# EAGLE library part MCP4728 (library _RoweTel)
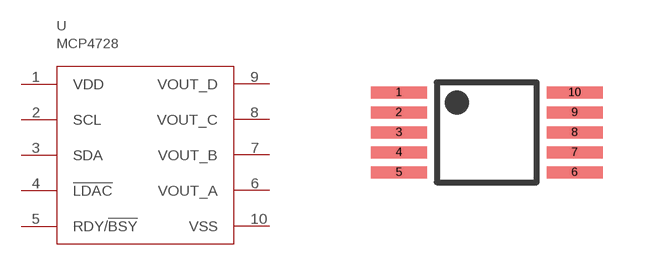
[diagram p43: symbol with the pads of MSOP-10; footprint MSOP-10]

Designator prefix U

## MCP4728  [MSOP-10]
1  VDD
2  SCL
3  SDA
4  !LDAC
5  RDY/!BSY
6  VOUT_A
7  VOUT_B
8  VOUT_C
9  VOUT_D
10  VSS

## Footprint MSOP-10 (pad centres in mm)
smd 1.4 x 0.3: 1 -2.2,1; 2 -2.2,0.5; 3 -2.2,0; 4 -2.2,-0.5; 5 -2.2,-1; 6 2.2,-1; 7 2.2,-0.5; 8 2.2,0; 9 2.2,0.5; 10 2.2,1